# EAGLE library part HIROSE-FX2-100S-1.27DS (library hirose-fx2-100)
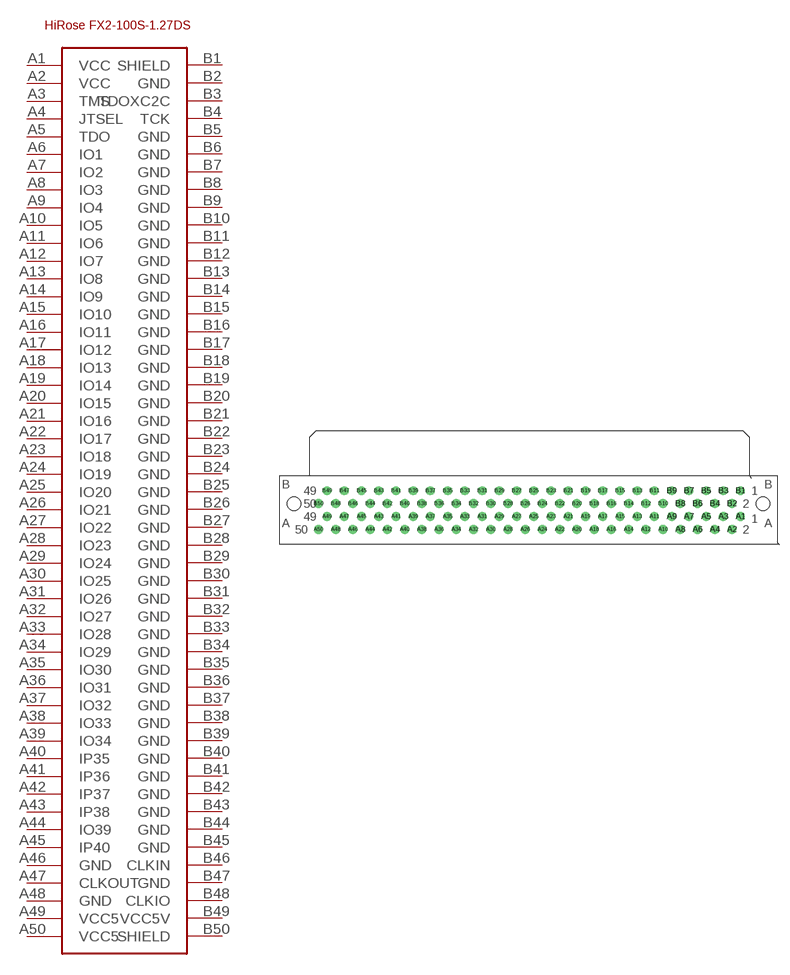
[diagram p0: symbol with the pads of HIROSE-FX2-100; footprint HIROSE-FX2-100]

Designator prefix -

## HIROSE-FX2-100S-1.27DS  [HIROSE-FX2-100]
A1  VCC  pwr
A2  VCC  pwr
A3  TMS
A4  JTSEL
A5  TDO
A6  IO1
A7  IO2
A8  IO3
A9  IO4
A10  IO5
A11  IO6
A12  IO7
A13  IO8
A14  IO9
A15  IO10
A16  IO11
A17  IO12
A18  IO13
A19  IO14
A20  IO15
A21  IO16
A22  IO17
A23  IO18
A24  IO19
A25  IO20
A26  IO21
A27  IO22
A28  IO23
A29  IO24
A30  IO25
A31  IO26
A32  IO27
A33  IO28
A34  IO29
A35  IO30
A36  IO31
A37  IO32
A38  IO33
A39  IO34
A40  IP35
A41  IP36
A42  IP37
A43  IP38
A44  IO39
A45  IP40
A46  GND  pwr
A47  CLKOUT  out
A48  GND  pwr
A49  VCC5  pwr
A50  VCC5  pwr
B1  SHIELD
B2  GND  pwr
B3  TDOXC2C
B4  TCK
B5  GND  pwr
B6  GND  pwr
B7  GND  pwr
B8  GND  pwr
B9  GND  pwr
B10  GND  pwr
B11  GND  pwr
B12  GND  pwr
B13  GND  pwr
B14  GND  pwr
B15  GND  pwr
B16  GND  pwr
B17  GND  pwr
B18  GND  pwr
B19  GND  pwr
B20  GND  pwr
B21  GND  pwr
B22  GND  pwr
B23  GND  pwr
B24  GND  pwr
B25  GND  pwr
B26  GND  pwr
B27  GND  pwr
B28  GND  pwr
B29  GND  pwr
B30  GND  pwr
B31  GND  pwr
B32  GND  pwr
B33  GND  pwr
B34  GND  pwr
B35  GND  pwr
B36  GND  pwr
B37  GND  pwr
B38  GND  pwr
B39  GND  pwr
B40  GND  pwr
B41  GND  pwr
B42  GND  pwr
B43  GND  pwr
B44  GND  pwr
B45  GND  pwr
B46  CLKIN  in
B47  GND  pwr
B48  CLKIO
B49  VCC5V  pwr
B50  SHIELD

## Footprint HIROSE-FX2-100 (pad centres in mm)
drill 0.8: A1 17.78,5.08; A2 16.51,3.175; A3 15.24,5.08; A4 13.97,3.175; A5 12.7,5.08; A6 11.43,3.175; A7 10.16,5.08; A8 8.89,3.175; A9 7.62,5.08; A10 6.35,3.175; A11 5.08,5.08; A12 3.81,3.175; A13 2.54,5.08; A14 1.27,3.175; A15 0,5.08; A16 -1.27,3.175; A17 -2.54,5.08; A18 -3.81,3.175; A19 -5.08,5.08; A20 -6.35,3.175; A21 -7.62,5.08; A22 -8.89,3.175; A23 -10.16,5.08; A24 -11.43,3.175; A25 -12.7,5.08; A26 -13.97,3.175; A27 -15.24,5.08; A28 -16.51,3.175; A29 -17.78,5.08; A30 -19.05,3.175; A31 -20.32,5.08; A32 -21.59,3.175; A33 -22.86,5.08; A34 -24.13,3.175; A35 -25.4,5.08; A36 -26.67,3.175; A37 -27.94,5.08; A38 -29.21,3.175; A39 -30.48,5.08; A40 -31.75,3.175; A41 -33.02,5.08; A42 -34.29,3.175; A43 -35.56,5.08; A44 -36.83,3.175; A45 -38.1,5.08; A46 -39.37,3.175; A47 -40.64,5.08; A48 -41.91,3.175; A49 -43.18,5.08; A50 -44.45,3.175; B1 17.78,8.89; B2 16.51,6.985; B3 15.24,8.89; B4 13.97,6.985; B5 12.7,8.89; B6 11.43,6.985; B7 10.16,8.89; B8 8.89,6.985; B9 7.62,8.89; B10 6.35,6.985; B11 5.08,8.89; B12 3.81,6.985; B13 2.54,8.89; B14 1.27,6.985; B15 0,8.89; B16 -1.27,6.985; B17 -2.54,8.89; B18 -3.81,6.985; B19 -5.08,8.89; B20 -6.35,6.985; B21 -7.62,8.89; B22 -8.89,6.985; B23 -10.16,8.89; B24 -11.43,6.985; B25 -12.7,8.89; B26 -13.97,6.985; B27 -15.24,8.89; B28 -16.51,6.985; B29 -17.78,8.89; B30 -19.05,6.985; B31 -20.32,8.89; B32 -21.59,6.985; B33 -22.86,8.89; B34 -24.13,6.985; B35 -25.4,8.89; B36 -26.67,6.985; B37 -27.94,8.89; B38 -29.21,6.985; B39 -30.48,8.89; B40 -31.75,6.985; B41 -33.02,8.89; B42 -34.29,6.985; B43 -35.56,8.89; B44 -36.83,6.985; B45 -38.1,8.89; B46 -39.37,6.985; B47 -40.64,8.89; B48 -41.91,6.985; B49 -43.18,8.89; B50 -44.45,6.985
hole 2 at 21.09,6.984
hole 2 at -48.032,6.985